# EAGLE library part MIC5166 (library Microchip)
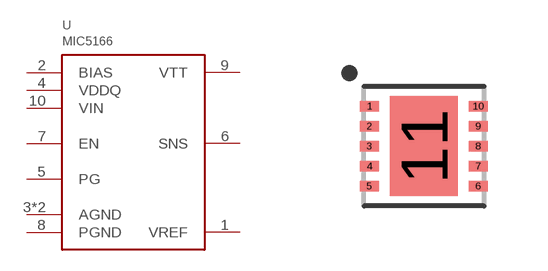
[diagram p53: symbol with the pads of DFN10; footprint DFN10]

Designator prefix U

## MIC5166  [DFN10]
1  VREF
2  BIAS
3  AGND
4  VDDQ
5  PG
6  SNS
7  EN
8  PGND
9  VTT
10  VIN
11  AGND

## Footprint DFN10 (pad centres in mm)
smd 0.48 x 0.26: 1 -1.36,1; 2 -1.36,0.5; 3 -1.36,0; 4 -1.36,-0.5; 5 -1.36,-1; 6 1.36,-1; 7 1.36,-0.5; 8 1.36,0; 9 1.36,0.5; 10 1.36,1
smd 1.7 x 2.5: 11 0,0